# EAGLE library part PINHEAD_1.27_01X08 (library dnkpd)
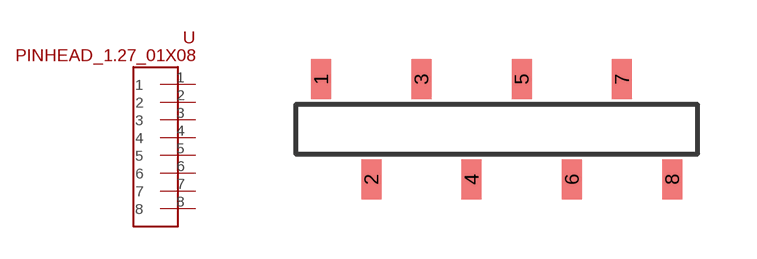
[diagram p0: symbol with the pads of PINHEAD_1.27_01X08; footprint PINHEAD_1.27_01X08]

Designator prefix -

## PINHEAD_1.27_01X08  [PINHEAD_1.27_01X08]
1  1
2  2
3  3
4  4
5  5
6  6
7  7
8  8

## Footprint PINHEAD_1.27_01X08 (pad centres in mm)
smd 0.508 x 1.016: 1 -4.445,1.27; 2 -3.175,-1.27; 3 -1.905,1.27; 4 -0.635,-1.27; 5 0.635,1.27; 6 1.905,-1.27; 7 3.175,1.27; 8 4.445,-1.27